# Altium footprint library DPAK.PcbLib: 1 footprints
Each footprint in its own frame and in the unit in brackets; x right, y up, seen from the top. Pads: shape width x height; smd on the part's side, far side on the other; paste and mask are expansions set on the pad; w line width, h text height; cw(c..) or ccw(c..) is an arc to the next point about the centre after c.
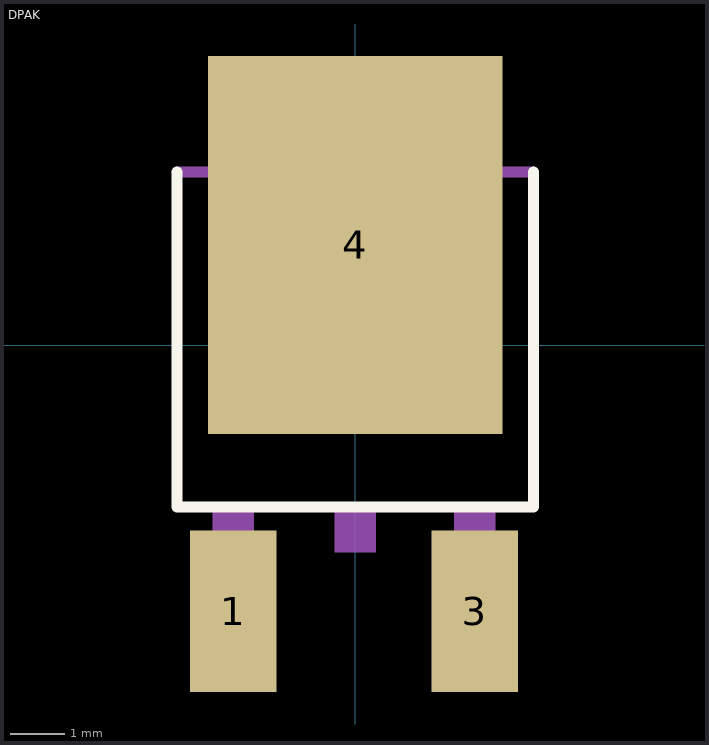
[diagram p0: the footprint, top view; thin cyan lines are the x and y axes]

## DPAK [mil]
pads (3):
  rect 63x118 smd: 1(-89,-194) 3(87,-194)
  rect 214.63x275.59 smd: 4(0,72.94)
Top Overlay:
  lines w8: -129.92,125.98 -129.92,-118.11 129.92,-118.11 129.92,125.98
Mechanical 13:
  region: -74,-226 -104,-226 -104,-121 -74,-121
  region: 102,-226 72,-226 72,-121 102,-121
  region: 15,-151 -15,-151 -15,-121 15,-121
  region: 98.43,155.51 98.43,125.98 -98.43,125.98 -98.43,155.51 -64.96,177.17 64.96,177.17
  lines w8: -129.92,125.98 129.92,125.98
  text "1" at -95,-99.5 h24
  text "2" at -8,-99.5 h24
  text "3" at 78,-99.5 h24
  text "4" at -13,72.5 h24
3D body "step_temp.STEP": height 99, standoff 0, extent -128.75,-195 128.75,195